# EAGLE library part JTAGICE3 (library borkedlabs-connectors)
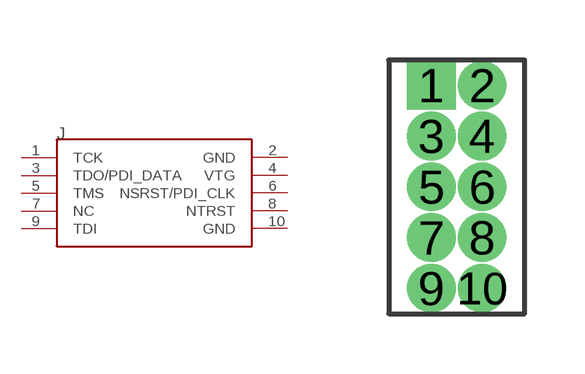
[diagram p2: symbol with the pads of 2X5_1.27MM_PTH; footprint 2X5_1.27MM_PTH]

Designator prefix J

## JTAGICE3  [2X5_1.27MM_PTH]
1  TCK
2  GND
3  TDO/PDI_DATA
4  VTG
5  TMS
6  NSRST/PDI_CLK
7  NC
8  NTRST
9  TDI
10  GND

## Footprint 2X5_1.27MM_PTH (pad centres in mm)
drill 0.711 pad 0.965 square: 1 -0.635,2.54
drill 0.711 pad 0.965: 2 0.635,2.54; 3 -0.635,1.27; 4 0.635,1.27; 5 -0.635,0; 6 0.635,0; 7 -0.635,-1.27; 8 0.635,-1.27; 9 -0.635,-2.54; 10 0.635,-2.54